# Altium schematic symbol library User-Submitted.SCHLIB: 15 symbols
Pins are listed as number, name and electrical type; pins without a type are passive.

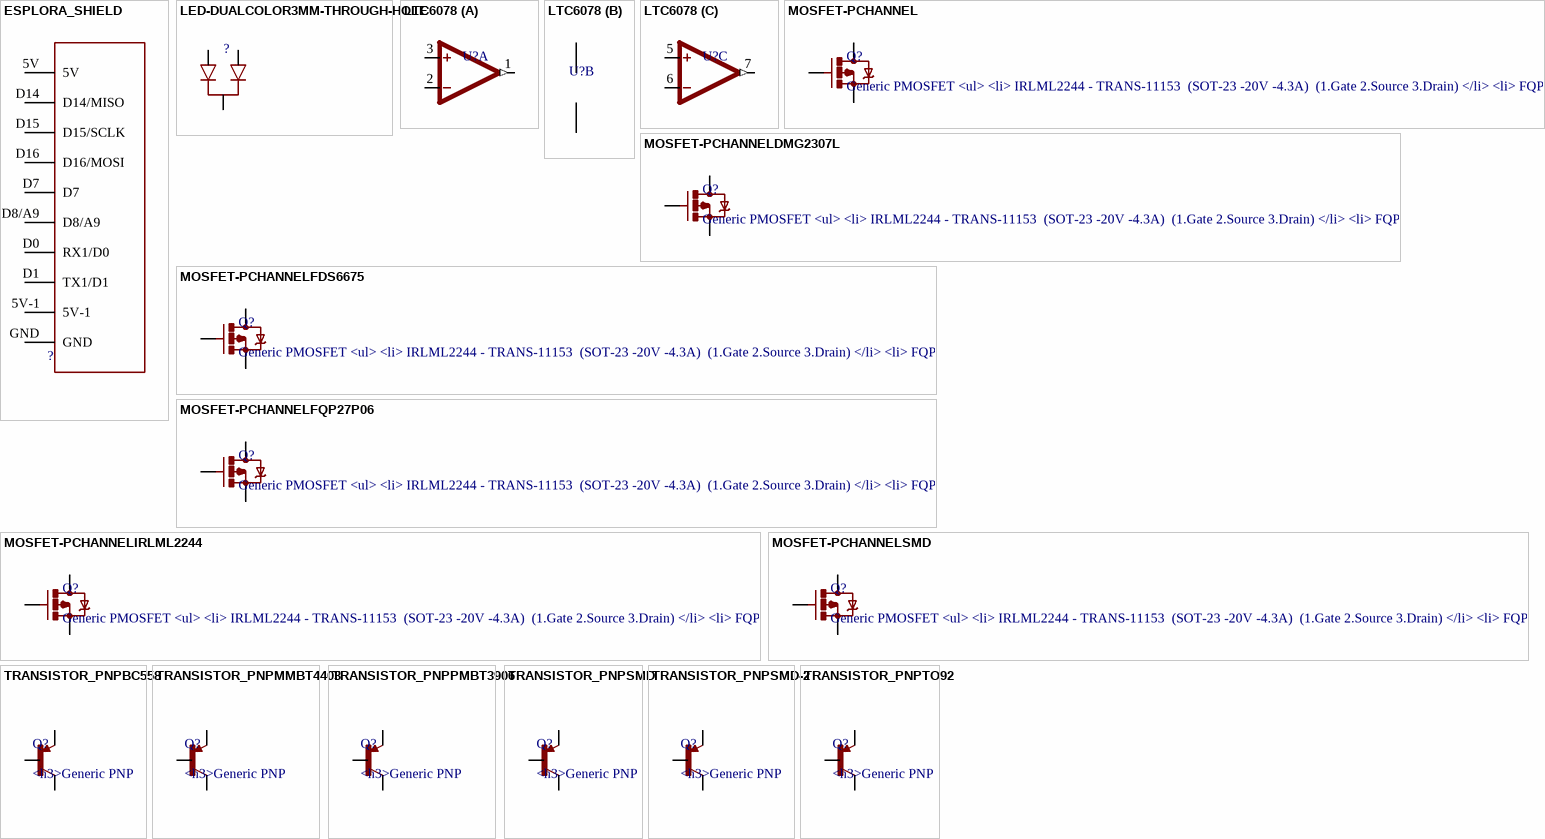
[diagram p0: symbols ESPLORA_SHIELD to TRANSISTOR_PNPTO92]

## ESPLORA_SHIELD
designator ?
footprint ESPLORA_SHIELD
pins: 5V, 5V-1, D0 RX1/D0, D1 TX1/D1, D7, D8/A9, D14 D14/MISO, D15 D15/SCLK, D16 D16/MOSI, GND

## LED-DUALCOLOR3MM-THROUGH-HOLE
designator ?
footprint LED-DUALCOLOR-3MM
pins: A1, A2, K

## LTC6078
designator U?
footprint MSOP8
part A pins: 1 OUT (out), 2 -IN, 3 +IN
part B pins: 4 GND (power), 8 VCC (power)
part C pins: 5 +IN, 6 -IN, 7 OUT (out)

## MOSFET-PCHANNEL
designator Q?, comment Generic PMOSFET / <ul> / <li> / IRLML2244 - TRANS-11153 / (SOT-23 -20V -4.3A) / (1.Gate 2.Source 3.Drain) / </li> / <li> / FQP27P06 - / <a href="http://www.sparkfun.com/products/10349">COM-10349</a> / (TO-220 -60V -27A) / (1.Gate 2.Source 3.Drain) / </li> / </ul>
PROD_ID: TRANS-08285
footprint SOT23-3
pins: 1 G, 2 S, 3 D

## MOSFET-PCHANNELDMG2307L
designator Q?, comment Generic PMOSFET / <ul> / <li> / IRLML2244 - TRANS-11153 / (SOT-23 -20V -4.3A) / (1.Gate 2.Source 3.Drain) / </li> / <li> / FQP27P06 - / <a href="http://www.sparkfun.com/products/10349">COM-10349</a> / (TO-220 -60V -27A) / (1.Gate 2.Source 3.Drain) / </li> / </ul>
PROD_ID: TRANS-11308
footprint SOT23-3
pins: 1 G, 2 S, 3 D

## MOSFET-PCHANNELFDS6675
designator Q?, comment Generic PMOSFET / <ul> / <li> / IRLML2244 - TRANS-11153 / (SOT-23 -20V -4.3A) / (1.Gate 2.Source 3.Drain) / </li> / <li> / FQP27P06 - / <a href="http://www.sparkfun.com/products/10349">COM-10349</a> / (TO-220 -60V -27A) / (1.Gate 2.Source 3.Drain) / </li> / </ul>
footprint SO08
pins: 1 2 3 S, 4 G, 5 6 7 8 D

## MOSFET-PCHANNELFQP27P06
designator Q?, comment Generic PMOSFET / <ul> / <li> / IRLML2244 - TRANS-11153 / (SOT-23 -20V -4.3A) / (1.Gate 2.Source 3.Drain) / </li> / <li> / FQP27P06 - / <a href="http://www.sparkfun.com/products/10349">COM-10349</a> / (TO-220 -60V -27A) / (1.Gate 2.Source 3.Drain) / </li> / </ul>
footprint TO220V
pins: 1 G, 2 D, 3 S

## MOSFET-PCHANNELIRLML2244
designator Q?, comment Generic PMOSFET / <ul> / <li> / IRLML2244 - TRANS-11153 / (SOT-23 -20V -4.3A) / (1.Gate 2.Source 3.Drain) / </li> / <li> / FQP27P06 - / <a href="http://www.sparkfun.com/products/10349">COM-10349</a> / (TO-220 -60V -27A) / (1.Gate 2.Source 3.Drain) / </li> / </ul>
PROD_ID: TRANS-11153
footprint SOT23-3
pins: 1 G, 2 S, 3 D

## MOSFET-PCHANNELSMD
designator Q?, comment Generic PMOSFET / <ul> / <li> / IRLML2244 - TRANS-11153 / (SOT-23 -20V -4.3A) / (1.Gate 2.Source 3.Drain) / </li> / <li> / FQP27P06 - / <a href="http://www.sparkfun.com/products/10349">COM-10349</a> / (TO-220 -60V -27A) / (1.Gate 2.Source 3.Drain) / </li> / </ul>
footprint SOT23-3
pins: 1 G, 2 S, 3 D

## TRANSISTOR_PNPBC558
designator Q?, comment <h3>Generic PNP BJT</h3> <P> / Double check pinouts against datasheets- not all devices are the same!<br> / MMBT3906 - 40V 200mA SOT-23 (TRANS-08052)<br> / MMBT4403 - 40V 600mA SOT-23 (TRANS-09245)
footprint TO-92-AMMO
pins: 1 C, 2 B, 3 E

## TRANSISTOR_PNPMMBT4403
designator Q?, comment <h3>Generic PNP BJT</h3> <P> / Double check pinouts against datasheets- not all devices are the same!<br> / MMBT3906 - 40V 200mA SOT-23 (TRANS-08052)<br> / MMBT4403 - 40V 600mA SOT-23 (TRANS-09245)
PROD_ID: TRANS-09245
footprint SOT23-3
pins: 1 B, 2 E, 3 C

## TRANSISTOR_PNPPMBT3906
designator Q?, comment <h3>Generic PNP BJT</h3> <P> / Double check pinouts against datasheets- not all devices are the same!<br> / MMBT3906 - 40V 200mA SOT-23 (TRANS-08052)<br> / MMBT4403 - 40V 600mA SOT-23 (TRANS-09245)
PROD_ID: TRANS-08052
footprint SOT23-3
pins: 1 B, 2 E, 3 C

## TRANSISTOR_PNPSMD
designator Q?, comment <h3>Generic PNP BJT</h3> <P> / Double check pinouts against datasheets- not all devices are the same!<br> / MMBT3906 - 40V 200mA SOT-23 (TRANS-08052)<br> / MMBT4403 - 40V 600mA SOT-23 (TRANS-09245)
footprint SOT23-3
pins: 1 B, 2 E, 3 C

## TRANSISTOR_PNPSMD-2
designator Q?, comment <h3>Generic PNP BJT</h3> <P> / Double check pinouts against datasheets- not all devices are the same!<br> / MMBT3906 - 40V 200mA SOT-23 (TRANS-08052)<br> / MMBT4403 - 40V 600mA SOT-23 (TRANS-09245)
footprint SOT89
pins: 1 B, 2 C, 3 E

## TRANSISTOR_PNPTO92
designator Q?, comment <h3>Generic PNP BJT</h3> <P> / Double check pinouts against datasheets- not all devices are the same!<br> / MMBT3906 - 40V 200mA SOT-23 (TRANS-08052)<br> / MMBT4403 - 40V 600mA SOT-23 (TRANS-09245)
footprint TO-92
pins: 1 E, 2 B, 3 C